# Altium schematic symbol library STMduino.SchLib: 4 symbols
Pins are listed as number, name and electrical type; pins without a type are passive.

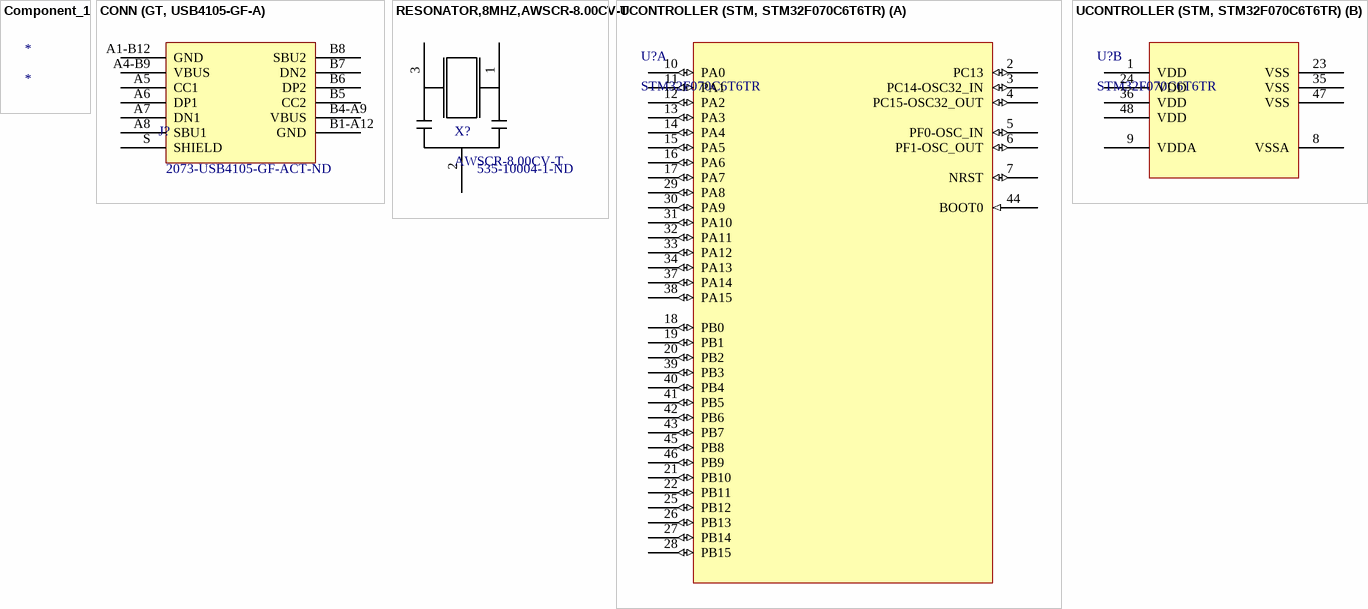
[diagram p0: symbols Component_1 to UCONTROLLER (STM, STM32F070C6T6TR)]

## Component_1
designator *

## CONN (GT, USB4105-GF-A)
designator J?, comment Supplier Part Number: 2073-USB4105-GF-ACT-ND  (hidden comment: USB4105-GF-A)
Conn USB 2.0 Type C RCP 24 POS 0.3mm/0.5mm Solder RA SMD 24 Terminal 1 Port T/R; Manufacturer: Global Connector Technology; Gender: Receptacle; Mating Cycles: 10000; Shielding: Shielded; Number of Ports: 1; Supplier: Digikey; Manufacturer Part Number: USB4105-GF-A; RoHS: Yes; Category: USB Connectors; Stock: 2137; Pricing: 1=0.75400, 10=0.68200, 25=0.64000, 50=0.61200, 100=0.58400, 250=0.52900, 500=0.48700 (USD); Mounting Technology: Surface Mount,Through Hole,Horizontal; Contact Plating: Gold; Insulation Color: Black; Min Operating Temperature: -40°C; Max Operating Temperature: 85°C; Connector Type: USB; Series: USB4105; Termination: Solder; Flammability Rating: UL94 V-0; ComponentLink1URL: https://gct.co/files/drawings/usb4105.pdf?src-supplier=Digi-Key; ComponentLink1Description: https://gct.co/files/drawings/usb4105.pdf?src-supplier=Digi-Key
footprint USB4105_GCT
pins: A1-B12 GND, A4-B9 VBUS, A5 CC1, A6 DP1, A7 DN1, A8 SBU1, B1-A12 GND, B4-A9 VBUS, B5 CC2, B6 DP2, B7 DN2, B8 SBU2, S SHIELD

## RESONATOR,8MHZ,AWSCR-8.00CV-T
designator X?, comment AWSCR-8.00CV-T  Supplier Part Number 1: 535-10004-1-ND
Ceramic Resonator 8MHz ±0.5% (Tol) ±0.4% (Stability) 22pF 30Ohm 3-Pin CSMD T/R; Manufacturer: Abracon; Impedance: 30R; Supplier: Digi-Key; Supplier Part Number: 535-10004-1-ND; Manufacturer Part Number: AWSCR-8.00CV-T; RoHS: Yes; Category: Resonators; Stock: 69584; Pricing: 1=0.42000, 10=0.34800, 50=0.31320, 100=0.27840, 500=0.26444 (USD); Mounting Technology: Surface Mount; Case/Package: SMD/SMT; Pins: 3; Min Operating Temperature: -25°C; Max Operating Temperature: 85°C; Frequency: 8MHz; Package Quantity: 1000; Frequency Tolerance: 0.5%; Value: 22pF; Packaging: Tape and Reel; Load Capacitance: 22pF; Tolerance: 0.5%; Resistor Type: Ceramic; Termination: SMD/SMT; Frequency Stability: 0.4%; Self Resonant Frequency: 8MHz; Series: AWSCR-CV; Operating Frequency: 8 MHz; Length: 0.146inch; Width: 0.122inch; Height: 0.039inch; Lead Free: Lead Free; ComponentLink1URL: https://datasheet.ciiva.com/884/awscr-cv-884663.pdf?src-supplier=Digi-Key; ComponentLink1Description: https://datasheet.ciiva.com/884/awscr-cv-884663.pdf?src-supplier=Digi-Key; ComponentLink2URL: https://datasheet.ciiva.com/884/awscr-cv-884664.pdf?src-supplier=Digi-Key; ComponentLink2Description: https://datasheet.ciiva.com/884/awscr-cv-884664.pdf?src-supplier=Digi-Key; ComponentLink3URL: https://datasheet.ciiva.com/884/awscr-cv-884665.pdf?src-supplier=Digi-Key; ComponentLink3Description: https://datasheet.ciiva.com/884/awscr-cv-884665.pdf?src-supplier=Digi-Key; ComponentLink4URL: https://datasheet.ciiva.com/4951/awscr-cv-4951066.pdf?src-supplier=Mouser; ComponentLink4Description: https://datasheet.ciiva.com/4951/awscr-cv-4951066.pdf?src-supplier=Mouser; ComponentLink5URL: https://datasheet.ciiva.com/16413/awscr-cv-16413614.pdf?src-supplier=Future+Electronics; ComponentLink5Description: https://datasheet.ciiva.com/16413/awscr-cv-16413614.pdf?src-supplier=Future+Electronics; ComponentLink6URL: https://datasheet.ciiva.com/1393/awscr-cv-1393160.pdf?src-supplier=Newark; ComponentLink6Description: https://datasheet.ciiva.com/1393/awscr-cv-1393160.pdf?src-supplier=Newark; Supplier 1: Digi-Key
pins: 1 IN, 2 GND, 3 OUT

## UCONTROLLER (STM, STM32F070C6T6TR)
designator U?, comment STM32F070C6T6TR
No Description Available; Mfr_Name: STMicroelectronics; Copyright: Copyright (C) 2022 Ultra Librarian. All rights reserved.; Manufacturer_Part_Number: STM32F070C6T6TR; RefDes: RefDes; Type: DEV; Supplier 1: Digi-Key; Supplier Part Number 1: 497-17352-ND
footprint LQFP48-7x7mm
part A pins: 2 PC13 (io), 3 PC14-OSC32_IN (io), 4 PC15-OSC32_OUT (io), 5 PF0-OSC_IN (io), 6 PF1-OSC_OUT (io), 7 NRST (io), 10 PA0 (io), 11 PA1 (io), 12 PA2 (io), 13 PA3 (io), 14 PA4 (io), 15 PA5 (io), 16 PA6 (io), 17 PA7 (io), 18 PB0 (io), 19 PB1 (io), 20 PB2 (io), 21 PB10 (io), 22 PB11 (io), 25 PB12 (io), 26 PB13 (io), 27 PB14 (io), 28 PB15 (io), 29 PA8 (io), 30 PA9 (io), 31 PA10 (io), 32 PA11 (io), 33 PA12 (io), 34 PA13 (io), 37 PA14 (io), 38 PA15 (io), 39 PB3 (io), 40 PB4 (io), 41 PB5 (io), 42 PB6 (io), 43 PB7 (io), 44 BOOT0 (in), 45 PB8 (io), 46 PB9 (io)
part B pins: 1 VDD (power), 8 VSSA (power), 9 VDDA (power), 23 VSS (power), 24 VDD (power), 35 VSS (power), 36 VDD (power), 47 VSS (power), 48 VDD (power)